# Altium schematic symbol library startbutton.SchLib: 1 symbol
Pins are listed as number, name and electrical type; pins without a type are passive.

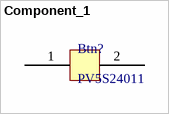
[diagram p0: symbol Component_1]

## Component_1
designator Btn?, comment PV5S24011
Pushbutton Switches 0-2A 48VDC Off (On) 12mm Black Domed
footprint PV5S24011 (Pushbutton Switches 0-2A 48VDC Off (On) 12mm Black Domed)
pins: 1, 2